# Altium footprint library Axial.PcbLib: 1 footprints
Each footprint in its own frame and in the unit in brackets; x right, y up, seen from the top. Pads: shape width x height; smd on the part's side, far side on the other; paste and mask are expansions set on the pad; w line width, h text height; cw(c..) or ccw(c..) is an arc to the next point about the centre after c.
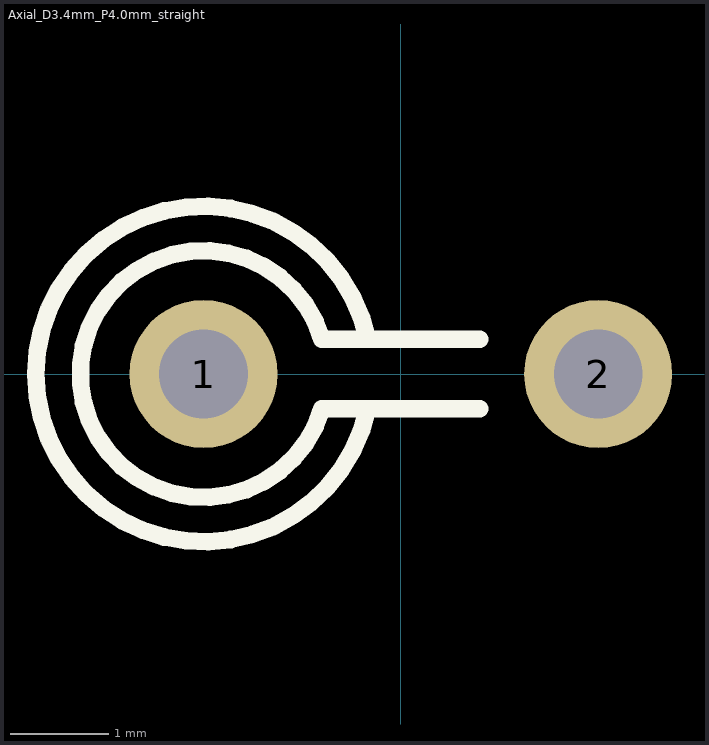
[diagram p0: the footprint, top view; thin cyan lines are the x and y axes]

## Axial_D3.4mm_P4.0mm_straight [mm] "Resistors, Axial, , Length 6.5 mm, Diameter 2.5 mm"
pads (2):
  round 1.5 hole 0.9: 1(-2,0) 2(2,0)
Top Overlay:
  lines w0.178: -0.801,-0.355 cw(c-2,0) -0.801,0.355 ; -0.8,-0.35 0.8,-0.35 ; -0.8,0.35 0.8,0.35 ; -0.337,-0.353 cw(c-2,0) -0.337,0.353
3D body "CircuitWorks-0_5W METAL FILM RESISTOR.step": height 12.5, standoff -5.2, extent -3.7,-1.7 2.4,1.7